# EAGLE library part NC7WZ125 (library dragino)
3 state buffer: http://www.fairchildsemi.com/ds/NC/NC7WZ125.pdf
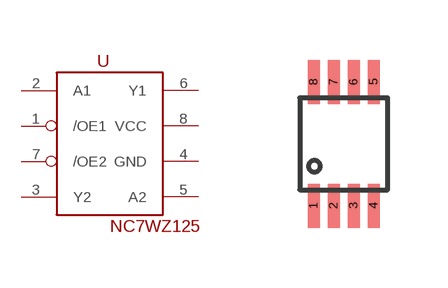
[diagram p19: symbol with the pads of US8; footprint US8]

Designator prefix -

## NC7WZ125  [US8]
1  /OE1  in
2  A1  in
3  Y2  out
4  GND  pwr
5  A2  in
6  Y1  out
7  /OE2  in
8  VCC  pwr

## Footprint US8 (pad centres in mm)
smd 0.3 x 1.1: 1 -0.75,-1.55; 2 -0.25,-1.55; 3 0.25,-1.55; 4 0.75,-1.55; 5 0.75,1.55; 6 0.25,1.55; 7 -0.25,1.55; 8 -0.75,1.55